# Altium footprint library CUI_MSD-4-A.PcbLib: 1 footprints
Each footprint in its own frame and in the unit in brackets; x right, y up, seen from the top. Pads: shape width x height; smd on the part's side, far side on the other; paste and mask are expansions set on the pad; w line width, h text height; cw(c..) or ccw(c..) is an arc to the next point about the centre after c.
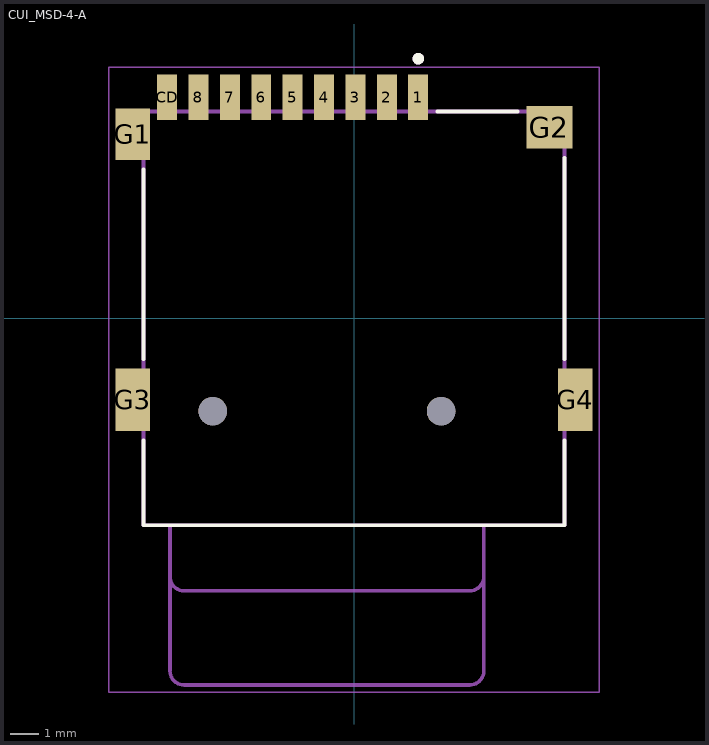
[diagram p0: the footprint, top view; thin cyan lines are the x and y axes]

## CUI_MSD-4-A [mm]
height 2
pads (15):
  rect 0.7x1.6 smd: 1(2.25,7.75) 2(1.15,7.75) 3(0.05,7.75) 4(-1.05,7.75) 5(-2.15,7.75) 6(-3.25,7.75) 7(-4.35,7.75) 8(-5.45,7.75) CD(-6.55,7.75)
  rect 1.2x1.8 smd: G1(-7.75,6.45)
  rect 1.6x1.5 smd: G2(6.85,6.7)
  rect 1.2x2.2 smd: G3(-7.75,-2.85) G4(7.75,-2.85)
  round 1 hole 1 unplated: ""(-4.95,-3.25) ""(3.05,-3.25)
Top Overlay:
  circle w0.2: c2.25,9.1 r0.1
  lines w0.127: -7.375,-4.27 -7.375,-7.25 7.375,-7.25 7.375,-4.27 ; -7.375,-1.43 -7.375,5.23 ; 2.92,7.25 5.73,7.25 ; 7.375,-1.43 7.375,5.63
Assembly Top:
  circle w0.2: c2.25,9.1 r0.1
  lines w0.127: -6.45,-9.05 ccw(c-5.95,-9.05) -5.95,-9.55 4.05,-9.55 ccw(c4.05,-9.05) 4.55,-9.05 ; -6.45,-7.25 -6.45,-12.35 ccw(c-5.95,-12.35) -5.95,-12.85 4.05,-12.85 ccw(c4.05,-12.35) 4.55,-12.35 4.55,-7.25 ; -6.45,-7.25 4.55,-7.25 ; -6.45,-7.25 -7.375,-7.25 -7.375,7.25 7.375,7.25 7.375,-7.25 4.55,-7.25
Courtyard Top:
  lines w0.05: -8.6,-13.1 -8.6,8.8 8.6,8.8 8.6,-13.1 -8.6,-13.1
3D body "step_temp.STEP": height 1.8, standoff -0.6, extent -8.075,-7.366 8.075,7.684